# Altium schematic symbol library MC-ARM-STM32F101-SQ48.SchLib: 1 symbol
Pins are listed as number, name and electrical type; pins without a type are passive.

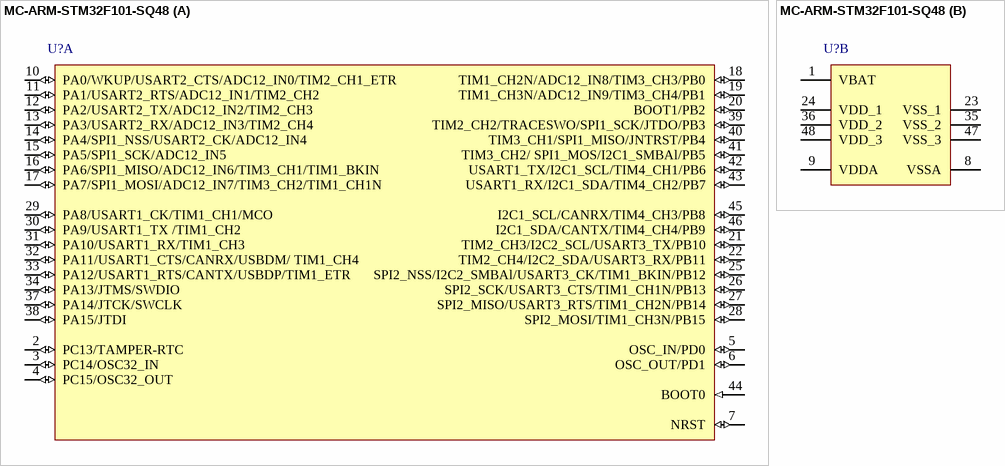
[diagram p0: symbol MC-ARM-STM32F101-SQ48]

## MC-ARM-STM32F101-SQ48
designator U?
footprint LQFP48_L (Thin QFP, 48-Leads, Body 7x7mm, Pitch 0.5mm, IPC High Density)
part A pins: 2 PC13/TAMPER-RTC (io), 3 PC14/OSC32_IN (io), 4 PC15/OSC32_OUT (io), 5 OSC_IN/PD0 (io), 6 OSC_OUT/PD1 (io), 7 NRST (io), 10 PA0/WKUP/USART2_CTS/ADC12_IN0/TIM2_CH1_ETR (io), 11 PA1/USART2_RTS/ADC12_IN1/TIM2_CH2 (io), 12 PA2/USART2_TX/ADC12_IN2/TIM2_CH3 (io), 13 PA3/USART2_RX/ADC12_IN3/TIM2_CH4 (io), 14 PA4/SPI1_NSS/USART2_CK/ADC12_IN4 (io), 15 PA5/SPI1_SCK/ADC12_IN5 (io), 16 PA6/SPI1_MISO/ADC12_IN6/TIM3_CH1/TIM1_BKIN (io), 17 PA7/SPI1_MOSI/ADC12_IN7/TIM3_CH2/TIM1_CH1N (io), 18 TIM1_CH2N/ADC12_IN8/TIM3_CH3/PB0 (io), 19 TIM1_CH3N/ADC12_IN9/TIM3_CH4/PB1 (io), 20 BOOT1/PB2 (io), 21 TIM2_CH3/I2C2_SCL/USART3_TX/PB10 (io), 22 TIM2_CH4/I2C2_SDA/USART3_RX/PB11 (io), 25 SPI2_NSS/I2C2_SMBAl/USART3_CK/TIM1_BKIN/PB12 (io), 26 SPI2_SCK/USART3_CTS/TIM1_CH1N/PB13 (io), 27 SPI2_MISO/USART3_RTS/TIM1_CH2N/PB14 (io), 28 SPI2_MOSI/TIM1_CH3N/PB15 (io), 29 PA8/USART1_CK/TIM1_CH1/MCO (io), 30 PA9/USART1_TX /TIM1_CH2  (io), 31 PA10/USART1_RX/TIM1_CH3 (io), 32 PA11/USART1_CTS/CANRX/USBDM/ TIM1_CH4 (io), 33 PA12/USART1_RTS/CANTX/USBDP/TIM1_ETR (io), 34 PA13/JTMS/SWDIO (io), 37 PA14/JTCK/SWCLK (io), 38 PA15/JTDI (io), 39 TIM2_CH2/TRACESWO/SPI1_SCK/JTDO/PB3 (io), 40 TIM3_CH1/SPI1_MISO/JNTRST/PB4 (io), 41 TIM3_CH2/ SPI1_MOS/I2C1_SMBAl/PB5 (io), 42 USART1_TX/I2C1_SCL/TIM4_CH1/PB6 (io), 43 USART1_RX/I2C1_SDA/TIM4_CH2/PB7 (io), 44 BOOT0 (in), 45 I2C1_SCL/CANRX/TIM4_CH3/PB8 (io), 46 I2C1_SDA/CANTX/TIM4_CH4/PB9 (io)
part B pins: 1 VBAT (power), 8 VSSA (power), 9 VDDA (power), 23 VSS_1 (power), 24 VDD_1 (power), 35 VSS_2 (power), 36 VDD_2 (power), 47 VSS_3 (power), 48 VDD_3 (power)